# Altium schematic symbol library lyahovskijMV_CP2112.SchLib: 1 symbol
Pins are listed as number, name and electrical type; pins without a type are passive.

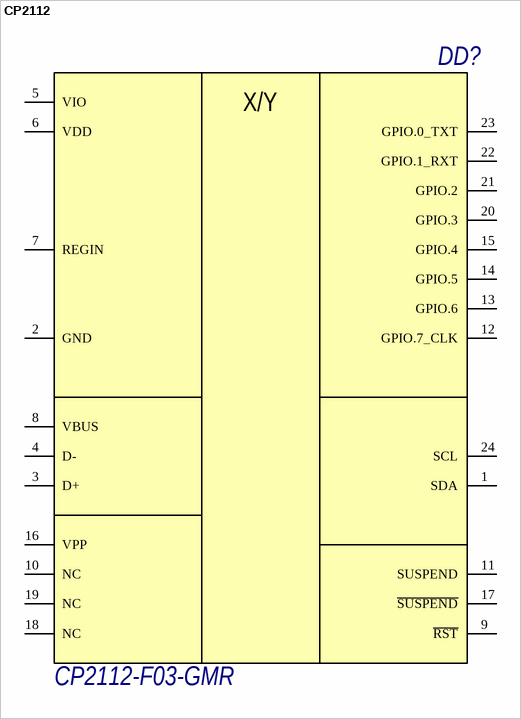
[diagram p0: symbol CP2112]

## CP2112
designator DD?, comment CP2112-F03-GMR
footprint CP2112 (QFN, 24-Leads, Body 4.00x4.00mm, Pitch 0.50mm, Thermal Pad 2.65x2.68mm, IPC Medium Density)
pins: 1 SDA, 2 GND, 3 D+, 4 D-, 5 VIO, 6 VDD, 7 REGIN, 8 VBUS, 9 ~{RST}, 10 NC, 11 SUSPEND, 12 GPIO.7_CLK, 13 GPIO.6, 14 GPIO.5, 15 GPIO.4, 16 VPP, 17 ~{SUSPEND}, 18 NC, 19 NC, 20 GPIO.3, 21 GPIO.2, 22 GPIO.1_RXT, 23 GPIO.0_TXT, 24 SCL
text: X/Y